# Altium integrated library ST Comm Teletext Circuit.IntLib: 25 symbols
Pins are listed as number, name and electrical type; pins without a type are passive.

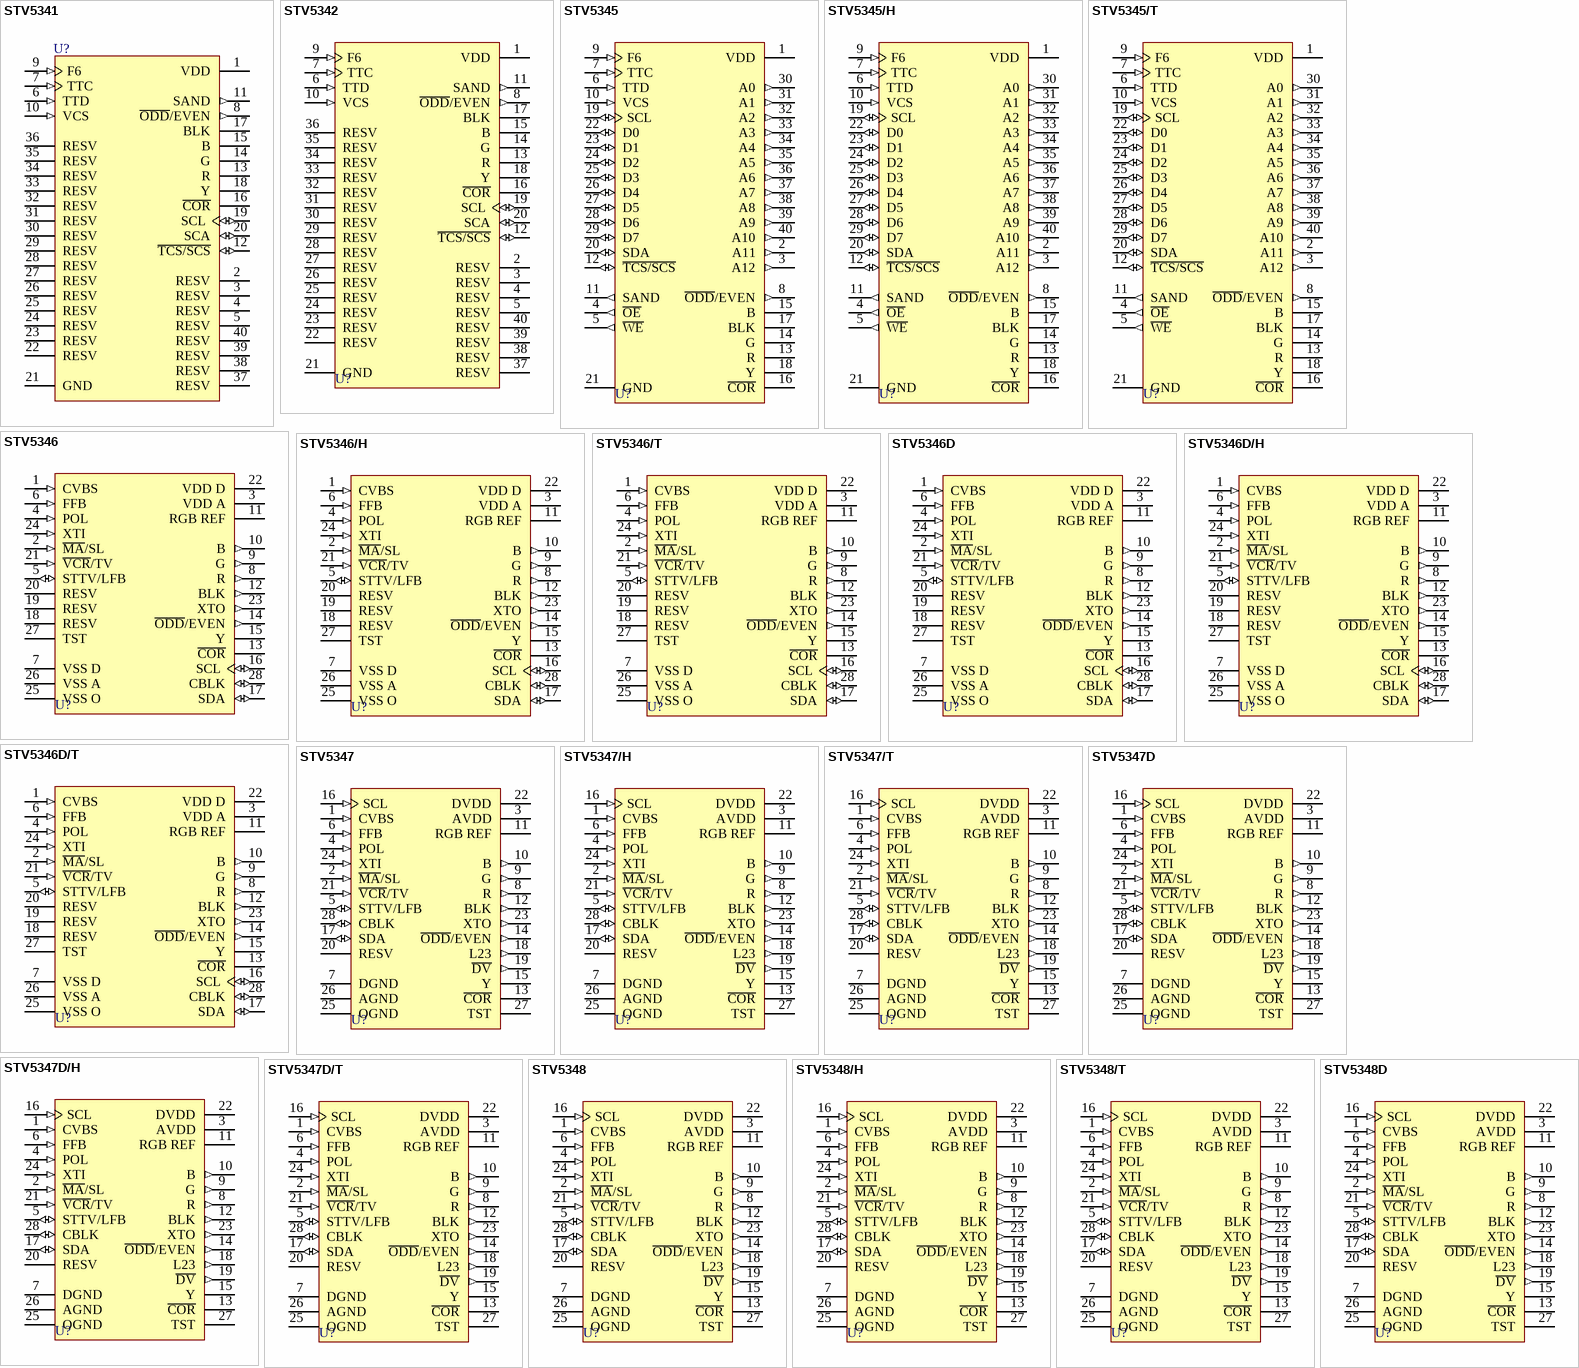
[diagram p0: symbols STV5341 to STV5348D]

## STV5341
designator U?
Teletext Decoder 2 Pages with Ghost Rows or 4 Pages for Display; Published: 24-Aug-2001; LatestRevisionDate: 17-Jul-2002; LatestRevisionNote: Re-released for DXP Platform.; DatasheetDocument: Apr-1994; PackageDocument: Jul-1999; PackageReference: PDIP40B; Publisher: Altium Limited
footprint PDIP40B (DIP; 40 Leads; Row Spacing 15.24 mm; Pitch 2.54 mm)
pins: 1 VDD (power), 2 RESV, 3 RESV, 4 RESV, 5 RESV, 6 TTD (in), 7 TTC (in), 8 ~{ODD}/EVEN (out), 9 F6 (in), 10 VCS (in), 11 SAND (out), 12 ~{TCS/SCS} (io), 13 R (oc), 14 G (oc), 15 B (oc), 16 ~{COR} (oc), 17 BLK (oc), 18 Y (oc), 19 SCL (io), 20 SCA (io), 21 GND (power), 22 RESV, 23 RESV, 24 RESV, 25 RESV, 26 RESV, 27 RESV, 28 RESV, 29 RESV, 30 RESV, 31 RESV, 32 RESV, 33 RESV, 34 RESV, 35 RESV, 36 RESV, 37 RESV, 38 RESV, 39 RESV, 40 RESV

## STV5342
designator U?
Teletext Decoder with 4 Integrated Pages; Published: 24-Aug-2001; LatestRevisionDate: 17-Jul-2002; LatestRevisionNote: Re-released for DXP Platform.; DatasheetDocument: Apr-1994; PackageDocument: Jul-1999; PackageReference: PDIP40B; Publisher: Altium Limited
footprint PDIP40B (DIP; 40 Leads; Row Spacing 15.24 mm; Pitch 2.54 mm)
pins: 1 VDD (power), 2 RESV, 3 RESV, 4 RESV, 5 RESV, 6 TTD (in), 7 TTC (in), 8 ~{ODD}/EVEN (out), 9 F6 (in), 10 VCS (in), 11 SAND (out), 12 ~{TCS/SCS} (io), 13 R (oc), 14 G (oc), 15 B (oc), 16 ~{COR} (oc), 17 BLK (oc), 18 Y (oc), 19 SCL (io), 20 SCA (io), 21 GND (power), 22 RESV, 23 RESV, 24 RESV, 25 RESV, 26 RESV, 27 RESV, 28 RESV, 29 RESV, 30 RESV, 31 RESV, 32 RESV, 33 RESV, 34 RESV, 35 RESV, 36 RESV, 37 RESV, 38 RESV, 39 RESV, 40 RESV

## STV5345
designator U?
Teletext Decoder with 8 Integrated Pages; Published: 24-Aug-2001; LatestRevisionDate: 17-Jul-2002; LatestRevisionNote: Re-released for DXP Platform.; DatasheetDocument: Apr-1994; PackageDocument: Jul-1999; PackageReference: PDIP40B; Publisher: Altium Limited
footprint PDIP40B (DIP; 40 Leads; Row Spacing 15.24 mm; Pitch 2.54 mm)
pins: 1 VDD (power), 2 A11 (out), 3 A12 (out), 4 ~{OE} (out), 5 ~{WE} (out), 6 TTD (in), 7 TTC (in), 8 ~{ODD}/EVEN (out), 9 F6 (in), 10 VCS (in), 11 SAND (out), 12 ~{TCS/SCS} (io), 13 R (oc), 14 G (oc), 15 B (oc), 16 ~{COR} (oc), 17 BLK (oc), 18 Y (oc), 19 SCL (io), 20 SDA (io), 21 GND (power), 22 D0 (io), 23 D1 (io), 24 D2 (io), 25 D3 (io), 26 D4 (io), 27 D5 (io), 28 D6 (io), 29 D7 (io), 30 A0 (out), 31 A1 (out), 32 A2 (out), 33 A3 (out), 34 A4 (out), 35 A5 (out), 36 A6 (out), 37 A7 (out), 38 A8 (out), 39 A9 (out), 40 A10 (out)

## STV5345/H
designator U?
Teletext Decoder with 8 Integrated Pages; Published: 24-Aug-2001; LatestRevisionDate: 17-Jul-2002; LatestRevisionNote: Re-released for DXP Platform.; DatasheetDocument: Apr-1994; PackageDocument: Jul-1999; PackageReference: PDIP40B; Publisher: Altium Limited
footprint PDIP40B (DIP; 40 Leads; Row Spacing 15.24 mm; Pitch 2.54 mm)
pins: 1 VDD (power), 2 A11 (out), 3 A12 (out), 4 ~{OE} (out), 5 ~{WE} (out), 6 TTD (in), 7 TTC (in), 8 ~{ODD}/EVEN (out), 9 F6 (in), 10 VCS (in), 11 SAND (out), 12 ~{TCS/SCS} (io), 13 R (oc), 14 G (oc), 15 B (oc), 16 ~{COR} (oc), 17 BLK (oc), 18 Y (oc), 19 SCL (io), 20 SDA (io), 21 GND (power), 22 D0 (io), 23 D1 (io), 24 D2 (io), 25 D3 (io), 26 D4 (io), 27 D5 (io), 28 D6 (io), 29 D7 (io), 30 A0 (out), 31 A1 (out), 32 A2 (out), 33 A3 (out), 34 A4 (out), 35 A5 (out), 36 A6 (out), 37 A7 (out), 38 A8 (out), 39 A9 (out), 40 A10 (out)

## STV5345/T
designator U?
Teletext Decoder with 8 Integrated Pages; Published: 24-Aug-2001; LatestRevisionDate: 17-Jul-2002; LatestRevisionNote: Re-released for DXP Platform.; DatasheetDocument: Apr-1994; PackageDocument: Jul-1999; PackageReference: PDIP40B; Publisher: Altium Limited
footprint PDIP40B (DIP; 40 Leads; Row Spacing 15.24 mm; Pitch 2.54 mm)
pins: 1 VDD (power), 2 A11 (out), 3 A12 (out), 4 ~{OE} (out), 5 ~{WE} (out), 6 TTD (in), 7 TTC (in), 8 ~{ODD}/EVEN (out), 9 F6 (in), 10 VCS (in), 11 SAND (out), 12 ~{TCS/SCS} (io), 13 R (oc), 14 G (oc), 15 B (oc), 16 ~{COR} (oc), 17 BLK (oc), 18 Y (oc), 19 SCL (io), 20 SDA (io), 21 GND (power), 22 D0 (io), 23 D1 (io), 24 D2 (io), 25 D3 (io), 26 D4 (io), 27 D5 (io), 28 D6 (io), 29 D7 (io), 30 A0 (out), 31 A1 (out), 32 A2 (out), 33 A3 (out), 34 A4 (out), 35 A5 (out), 36 A6 (out), 37 A7 (out), 38 A8 (out), 39 A9 (out), 40 A10 (out)

## STV5346
designator U?
Monochip Teletext Decoder with 8 Integrated Pages; Published: 24-Aug-2001; LatestRevisionDate: 17-Jul-2002; LatestRevisionNote: Re-released for DXP Platform.; DatasheetDocument: Nov-1995; PackageDocument: Jan-2003; PackageReference: PDIP28; Publisher: Altium Limited
footprint PDIP28 (DIP; 28 Leads; Row Spacing 15.24 mm; Pitch 2.54 mm)
pins: 1 CVBS (in), 2 ~{MA}/SL (in), 3 VDD A (power), 4 POL (in), 5 STTV/LFB (io), 6 FFB (in), 7 VSS D (power), 8 R (out), 9 G (out), 10 B (out), 11 RGB REF (power), 12 BLK (out), 13 ~{COR} (oc), 14 ~{ODD}/EVEN (out), 15 Y (oc), 16 SCL (io), 17 SDA (io), 18 RESV, 19 RESV, 20 RESV, 21 ~{VCR}/TV (in), 22 VDD D (power), 23 XTO (out), 24 XTI (in), 25 VSS O (power), 26 VSS A (power), 27 TST, 28 CBLK (io)

## STV5346/H
designator U?
Monochip Teletext Decoder with 8 Integrated Pages; Published: 24-Aug-2001; LatestRevisionDate: 17-Jul-2002; LatestRevisionNote: Re-released for DXP Platform.; DatasheetDocument: Nov-1995; PackageDocument: Jan-2003; PackageReference: PDIP28; Publisher: Altium Limited
footprint PDIP28 (DIP; 28 Leads; Row Spacing 15.24 mm; Pitch 2.54 mm)
pins: 1 CVBS (in), 2 ~{MA}/SL (in), 3 VDD A (power), 4 POL (in), 5 STTV/LFB (io), 6 FFB (in), 7 VSS D (power), 8 R (out), 9 G (out), 10 B (out), 11 RGB REF (power), 12 BLK (out), 13 ~{COR} (oc), 14 ~{ODD}/EVEN (out), 15 Y (oc), 16 SCL (io), 17 SDA (io), 18 RESV, 19 RESV, 20 RESV, 21 ~{VCR}/TV (in), 22 VDD D (power), 23 XTO (out), 24 XTI (in), 25 VSS O (power), 26 VSS A (power), 27 TST, 28 CBLK (io)

## STV5346/T
designator U?
Monochip Teletext Decoder with 8 Integrated Pages; Published: 24-Aug-2001; LatestRevisionDate: 17-Jul-2002; LatestRevisionNote: Re-released for DXP Platform.; DatasheetDocument: Nov-1995; PackageDocument: Jan-2003; PackageReference: PDIP28; Publisher: Altium Limited
footprint PDIP28 (DIP; 28 Leads; Row Spacing 15.24 mm; Pitch 2.54 mm)
pins: 1 CVBS (in), 2 ~{MA}/SL (in), 3 VDD A (power), 4 POL (in), 5 STTV/LFB (io), 6 FFB (in), 7 VSS D (power), 8 R (out), 9 G (out), 10 B (out), 11 RGB REF (power), 12 BLK (out), 13 ~{COR} (oc), 14 ~{ODD}/EVEN (out), 15 Y (oc), 16 SCL (io), 17 SDA (io), 18 RESV, 19 RESV, 20 RESV, 21 ~{VCR}/TV (in), 22 VDD D (power), 23 XTO (out), 24 XTI (in), 25 VSS O (power), 26 VSS A (power), 27 TST, 28 CBLK (io)

## STV5346D
designator U?
Monochip Teletext Decoder with 8 Integrated Pages; Published: 24-Aug-2001; LatestRevisionDate: 17-Jul-2002; LatestRevisionNote: Re-released for DXP Platform.; DatasheetDocument: Nov-1995; PackageDocument: Jul-2001; PackageReference: SO28; Publisher: Altium Limited; Code_IPC: SO28W
footprint SO28 (Small Outline, Plastic; 28 Leads; Body Width 7.5 mm; Pitch 1.27 mm)
pins: 1 CVBS (in), 2 ~{MA}/SL (in), 3 VDD A (power), 4 POL (in), 5 STTV/LFB (io), 6 FFB (in), 7 VSS D (power), 8 R (out), 9 G (out), 10 B (out), 11 RGB REF (power), 12 BLK (out), 13 ~{COR} (oc), 14 ~{ODD}/EVEN (out), 15 Y (oc), 16 SCL (io), 17 SDA (io), 18 RESV, 19 RESV, 20 RESV, 21 ~{VCR}/TV (in), 22 VDD D (power), 23 XTO (out), 24 XTI (in), 25 VSS O (power), 26 VSS A (power), 27 TST, 28 CBLK (io)

## STV5346D/H
designator U?
Monochip Teletext Decoder with 8 Integrated Pages; Published: 24-Aug-2001; LatestRevisionDate: 17-Jul-2002; LatestRevisionNote: Re-released for DXP Platform.; DatasheetDocument: Nov-1995; PackageDocument: Jul-2001; PackageReference: SO28; Publisher: Altium Limited; Code_IPC: SO28W
footprint SO28 (Small Outline, Plastic; 28 Leads; Body Width 7.5 mm; Pitch 1.27 mm)
pins: 1 CVBS (in), 2 ~{MA}/SL (in), 3 VDD A (power), 4 POL (in), 5 STTV/LFB (io), 6 FFB (in), 7 VSS D (power), 8 R (out), 9 G (out), 10 B (out), 11 RGB REF (power), 12 BLK (out), 13 ~{COR} (oc), 14 ~{ODD}/EVEN (out), 15 Y (oc), 16 SCL (io), 17 SDA (io), 18 RESV, 19 RESV, 20 RESV, 21 ~{VCR}/TV (in), 22 VDD D (power), 23 XTO (out), 24 XTI (in), 25 VSS O (power), 26 VSS A (power), 27 TST, 28 CBLK (io)

## STV5346D/T
designator U?
Monochip Teletext Decoder with 8 Integrated Pages; Published: 24-Aug-2001; LatestRevisionDate: 17-Jul-2002; LatestRevisionNote: Re-released for DXP Platform.; DatasheetDocument: Nov-1995; PackageDocument: Jul-2001; PackageReference: SO28; Publisher: Altium Limited; Code_IPC: SO28W
footprint SO28 (Small Outline, Plastic; 28 Leads; Body Width 7.5 mm; Pitch 1.27 mm)
pins: 1 CVBS (in), 2 ~{MA}/SL (in), 3 VDD A (power), 4 POL (in), 5 STTV/LFB (io), 6 FFB (in), 7 VSS D (power), 8 R (out), 9 G (out), 10 B (out), 11 RGB REF (power), 12 BLK (out), 13 ~{COR} (oc), 14 ~{ODD}/EVEN (out), 15 Y (oc), 16 SCL (io), 17 SDA (io), 18 RESV, 19 RESV, 20 RESV, 21 ~{VCR}/TV (in), 22 VDD D (power), 23 XTO (out), 24 XTI (in), 25 VSS O (power), 26 VSS A (power), 27 TST, 28 CBLK (io)

## STV5347
designator U?
Monochip Teletext and VPS Decoder with 4 Integrated Pages; Published: 24-Aug-2001; LatestRevisionDate: 17-Jul-2002; LatestRevisionNote: Re-released for DXP Platform.; DatasheetDocument: Jun-1997; PackageDocument: Jan-2003; PackageReference: PDIP28; Publisher: Altium Limited
footprint PDIP28 (DIP; 28 Leads; Row Spacing 15.24 mm; Pitch 2.54 mm)
pins: 1 CVBS (in), 2 ~{MA}/SL (in), 3 AVDD (power), 4 POL (in), 5 STTV/LFB (io), 6 FFB (in), 7 DGND (power), 8 R (out), 9 G (out), 10 B (out), 11 RGB REF (power), 12 BLK (out), 13 ~{COR} (oc), 14 ~{ODD}/EVEN (out), 15 Y (oc), 16 SCL (in), 17 SDA (io), 18 L23 (out), 19 ~{DV} (out), 20 RESV, 21 ~{VCR}/TV (in), 22 DVDD (power), 23 XTO (out), 24 XTI (in), 25 OGND (power), 26 AGND (power), 27 TST, 28 CBLK (io)

## STV5347/H
designator U?
Monochip Teletext and VPS Decoder with 4 Integrated Pages; Published: 24-Aug-2001; LatestRevisionDate: 17-Jul-2002; LatestRevisionNote: Re-released for DXP Platform.; DatasheetDocument: Jun-1997; PackageDocument: Jan-2003; PackageReference: PDIP28; Publisher: Altium Limited
footprint PDIP28 (DIP; 28 Leads; Row Spacing 15.24 mm; Pitch 2.54 mm)
pins: 1 CVBS (in), 2 ~{MA}/SL (in), 3 AVDD (power), 4 POL (in), 5 STTV/LFB (io), 6 FFB (in), 7 DGND (power), 8 R (out), 9 G (out), 10 B (out), 11 RGB REF (power), 12 BLK (out), 13 ~{COR} (oc), 14 ~{ODD}/EVEN (out), 15 Y (oc), 16 SCL (in), 17 SDA (io), 18 L23 (out), 19 ~{DV} (out), 20 RESV, 21 ~{VCR}/TV (in), 22 DVDD (power), 23 XTO (out), 24 XTI (in), 25 OGND (power), 26 AGND (power), 27 TST, 28 CBLK (io)

## STV5347/T
designator U?
Monochip Teletext and VPS Decoder with 4 Integrated Pages; Published: 24-Aug-2001; LatestRevisionDate: 17-Jul-2002; LatestRevisionNote: Re-released for DXP Platform.; DatasheetDocument: Jun-1997; PackageDocument: Jan-2003; PackageReference: PDIP28; Publisher: Altium Limited
footprint PDIP28 (DIP; 28 Leads; Row Spacing 15.24 mm; Pitch 2.54 mm)
pins: 1 CVBS (in), 2 ~{MA}/SL (in), 3 AVDD (power), 4 POL (in), 5 STTV/LFB (io), 6 FFB (in), 7 DGND (power), 8 R (out), 9 G (out), 10 B (out), 11 RGB REF (power), 12 BLK (out), 13 ~{COR} (oc), 14 ~{ODD}/EVEN (out), 15 Y (oc), 16 SCL (in), 17 SDA (io), 18 L23 (out), 19 ~{DV} (out), 20 RESV, 21 ~{VCR}/TV (in), 22 DVDD (power), 23 XTO (out), 24 XTI (in), 25 OGND (power), 26 AGND (power), 27 TST, 28 CBLK (io)

## STV5347D
designator U?
Monochip Teletext and VPS Decoder with 4 Integrated Pages; Published: 24-Aug-2001; LatestRevisionDate: 17-Jul-2002; LatestRevisionNote: Re-released for DXP Platform.; DatasheetDocument: Jun-1997; PackageDocument: Jul-2001; PackageReference: SO28; Publisher: Altium Limited; Code_IPC: SO28W
footprint SO28 (Small Outline, Plastic; 28 Leads; Body Width 7.5 mm; Pitch 1.27 mm)
pins: 1 CVBS (in), 2 ~{MA}/SL (in), 3 AVDD (power), 4 POL (in), 5 STTV/LFB (io), 6 FFB (in), 7 DGND (power), 8 R (out), 9 G (out), 10 B (out), 11 RGB REF (power), 12 BLK (out), 13 ~{COR} (oc), 14 ~{ODD}/EVEN (out), 15 Y (oc), 16 SCL (in), 17 SDA (io), 18 L23 (out), 19 ~{DV} (out), 20 RESV, 21 ~{VCR}/TV (in), 22 DVDD (power), 23 XTO (out), 24 XTI (in), 25 OGND (power), 26 AGND (power), 27 TST, 28 CBLK (io)

## STV5347D/H
designator U?
Monochip Teletext and VPS Decoder with 4 Integrated Pages; Published: 24-Aug-2001; LatestRevisionDate: 17-Jul-2002; LatestRevisionNote: Re-released for DXP Platform.; DatasheetDocument: Jun-1997; PackageDocument: Jul-2001; PackageReference: SO28; Publisher: Altium Limited; Code_IPC: SO28W
footprint SO28 (Small Outline, Plastic; 28 Leads; Body Width 7.5 mm; Pitch 1.27 mm)
pins: 1 CVBS (in), 2 ~{MA}/SL (in), 3 AVDD (power), 4 POL (in), 5 STTV/LFB (io), 6 FFB (in), 7 DGND (power), 8 R (out), 9 G (out), 10 B (out), 11 RGB REF (power), 12 BLK (out), 13 ~{COR} (oc), 14 ~{ODD}/EVEN (out), 15 Y (oc), 16 SCL (in), 17 SDA (io), 18 L23 (out), 19 ~{DV} (out), 20 RESV, 21 ~{VCR}/TV (in), 22 DVDD (power), 23 XTO (out), 24 XTI (in), 25 OGND (power), 26 AGND (power), 27 TST, 28 CBLK (io)

## STV5347D/T
designator U?
Monochip Teletext and VPS Decoder with 4 Integrated Pages; Published: 24-Aug-2001; LatestRevisionDate: 17-Jul-2002; LatestRevisionNote: Re-released for DXP Platform.; DatasheetDocument: Jun-1997; PackageDocument: Jul-2001; PackageReference: SO28; Publisher: Altium Limited; Code_IPC: SO28W
footprint SO28 (Small Outline, Plastic; 28 Leads; Body Width 7.5 mm; Pitch 1.27 mm)
pins: 1 CVBS (in), 2 ~{MA}/SL (in), 3 AVDD (power), 4 POL (in), 5 STTV/LFB (io), 6 FFB (in), 7 DGND (power), 8 R (out), 9 G (out), 10 B (out), 11 RGB REF (power), 12 BLK (out), 13 ~{COR} (oc), 14 ~{ODD}/EVEN (out), 15 Y (oc), 16 SCL (in), 17 SDA (io), 18 L23 (out), 19 ~{DV} (out), 20 RESV, 21 ~{VCR}/TV (in), 22 DVDD (power), 23 XTO (out), 24 XTI (in), 25 OGND (power), 26 AGND (power), 27 TST, 28 CBLK (io)

## STV5348
designator U?
Monochip Teletext and VPS Decoder with 8 Integrated Pages; Published: 24-Aug-2001; LatestRevisionDate: 17-Jul-2002; LatestRevisionNote: Re-released for DXP Platform.; DatasheetDocument: Sep-1998; PackageDocument: Jan-2003; PackageReference: PDIP28; Publisher: Altium Limited
footprint PDIP28 (DIP; 28 Leads; Row Spacing 15.24 mm; Pitch 2.54 mm)
pins: 1 CVBS (in), 2 ~{MA}/SL (in), 3 AVDD (power), 4 POL (in), 5 STTV/LFB (io), 6 FFB (in), 7 DGND (power), 8 R (out), 9 G (out), 10 B (out), 11 RGB REF (power), 12 BLK (out), 13 ~{COR} (oc), 14 ~{ODD}/EVEN (out), 15 Y (oc), 16 SCL (in), 17 SDA (io), 18 L23 (out), 19 ~{DV} (out), 20 RESV, 21 ~{VCR}/TV (in), 22 DVDD (power), 23 XTO (out), 24 XTI (in), 25 OGND (power), 26 AGND (power), 27 TST, 28 CBLK (io)

## STV5348/H
designator U?
Monochip Teletext and VPS Decoder with 8 Integrated Pages; Published: 24-Aug-2001; LatestRevisionDate: 17-Jul-2002; LatestRevisionNote: Re-released for DXP Platform.; DatasheetDocument: Sep-1998; PackageDocument: Jan-2003; PackageReference: PDIP28; Publisher: Altium Limited
footprint PDIP28 (DIP; 28 Leads; Row Spacing 15.24 mm; Pitch 2.54 mm)
pins: 1 CVBS (in), 2 ~{MA}/SL (in), 3 AVDD (power), 4 POL (in), 5 STTV/LFB (io), 6 FFB (in), 7 DGND (power), 8 R (out), 9 G (out), 10 B (out), 11 RGB REF (power), 12 BLK (out), 13 ~{COR} (oc), 14 ~{ODD}/EVEN (out), 15 Y (oc), 16 SCL (in), 17 SDA (io), 18 L23 (out), 19 ~{DV} (out), 20 RESV, 21 ~{VCR}/TV (in), 22 DVDD (power), 23 XTO (out), 24 XTI (in), 25 OGND (power), 26 AGND (power), 27 TST, 28 CBLK (io)

## STV5348/T
designator U?
Monochip Teletext and VPS Decoder with 8 Integrated Pages; Published: 24-Aug-2001; LatestRevisionDate: 17-Jul-2002; LatestRevisionNote: Re-released for DXP Platform.; DatasheetDocument: Sep-1998; PackageDocument: Jan-2003; PackageReference: PDIP28; Publisher: Altium Limited
footprint PDIP28 (DIP; 28 Leads; Row Spacing 15.24 mm; Pitch 2.54 mm)
pins: 1 CVBS (in), 2 ~{MA}/SL (in), 3 AVDD (power), 4 POL (in), 5 STTV/LFB (io), 6 FFB (in), 7 DGND (power), 8 R (out), 9 G (out), 10 B (out), 11 RGB REF (power), 12 BLK (out), 13 ~{COR} (oc), 14 ~{ODD}/EVEN (out), 15 Y (oc), 16 SCL (in), 17 SDA (io), 18 L23 (out), 19 ~{DV} (out), 20 RESV, 21 ~{VCR}/TV (in), 22 DVDD (power), 23 XTO (out), 24 XTI (in), 25 OGND (power), 26 AGND (power), 27 TST, 28 CBLK (io)

## STV5348D
designator U?
Monochip Teletext and VPS Decoder with 8 Integrated Pages; Published: 24-Aug-2001; LatestRevisionDate: 17-Jul-2002; LatestRevisionNote: Re-released for DXP Platform.; DatasheetDocument: Sep-1998; PackageDocument: Jul-2001; PackageReference: SO28; Publisher: Altium Limited; Code_IPC: SO28W
footprint SO28 (Small Outline, Plastic; 28 Leads; Body Width 7.5 mm; Pitch 1.27 mm)
pins: 1 CVBS (in), 2 ~{MA}/SL (in), 3 AVDD (power), 4 POL (in), 5 STTV/LFB (io), 6 FFB (in), 7 DGND (power), 8 R (out), 9 G (out), 10 B (out), 11 RGB REF (power), 12 BLK (out), 13 ~{COR} (oc), 14 ~{ODD}/EVEN (out), 15 Y (oc), 16 SCL (in), 17 SDA (io), 18 L23 (out), 19 ~{DV} (out), 20 RESV, 21 ~{VCR}/TV (in), 22 DVDD (power), 23 XTO (out), 24 XTI (in), 25 OGND (power), 26 AGND (power), 27 TST, 28 CBLK (io)

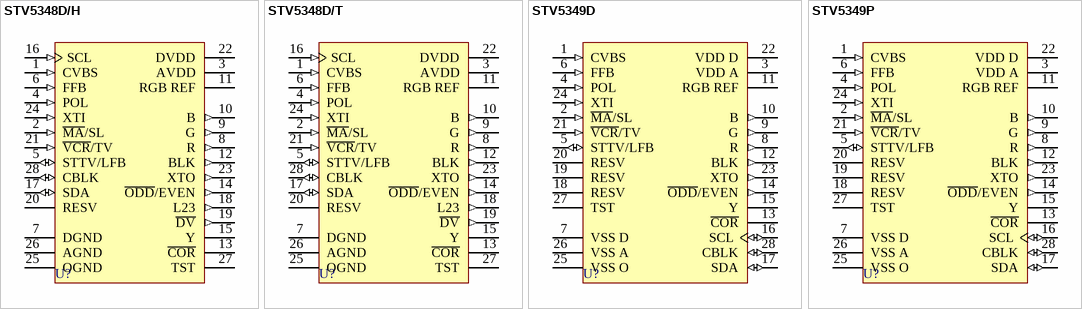
[diagram p1: symbols STV5348D/H to STV5349P]

## STV5348D/H
designator U?
Monochip Teletext and VPS Decoder with 8 Integrated Pages; Published: 24-Aug-2001; LatestRevisionDate: 17-Jul-2002; LatestRevisionNote: Re-released for DXP Platform.; DatasheetDocument: Sep-1998; PackageDocument: Jul-2001; PackageReference: SO28; Publisher: Altium Limited; Code_IPC: SO28W
footprint SO28 (Small Outline, Plastic; 28 Leads; Body Width 7.5 mm; Pitch 1.27 mm)
pins: 1 CVBS (in), 2 ~{MA}/SL (in), 3 AVDD (power), 4 POL (in), 5 STTV/LFB (io), 6 FFB (in), 7 DGND (power), 8 R (out), 9 G (out), 10 B (out), 11 RGB REF (power), 12 BLK (out), 13 ~{COR} (oc), 14 ~{ODD}/EVEN (out), 15 Y (oc), 16 SCL (in), 17 SDA (io), 18 L23 (out), 19 ~{DV} (out), 20 RESV, 21 ~{VCR}/TV (in), 22 DVDD (power), 23 XTO (out), 24 XTI (in), 25 OGND (power), 26 AGND (power), 27 TST, 28 CBLK (io)

## STV5348D/T
designator U?
Monochip Teletext and VPS Decoder with 8 Integrated Pages; Published: 24-Aug-2001; LatestRevisionDate: 17-Jul-2002; LatestRevisionNote: Re-released for DXP Platform.; DatasheetDocument: Sep-1998; PackageDocument: Jul-2001; PackageReference: SO28; Publisher: Altium Limited; Code_IPC: SO28W
footprint SO28 (Small Outline, Plastic; 28 Leads; Body Width 7.5 mm; Pitch 1.27 mm)
pins: 1 CVBS (in), 2 ~{MA}/SL (in), 3 AVDD (power), 4 POL (in), 5 STTV/LFB (io), 6 FFB (in), 7 DGND (power), 8 R (out), 9 G (out), 10 B (out), 11 RGB REF (power), 12 BLK (out), 13 ~{COR} (oc), 14 ~{ODD}/EVEN (out), 15 Y (oc), 16 SCL (in), 17 SDA (io), 18 L23 (out), 19 ~{DV} (out), 20 RESV, 21 ~{VCR}/TV (in), 22 DVDD (power), 23 XTO (out), 24 XTI (in), 25 OGND (power), 26 AGND (power), 27 TST, 28 CBLK (io)

## STV5349D
designator U?
Monochip Teletext Decoder with 1 Displayable Page with Ghost Rows; Published: 24-Aug-2001; LatestRevisionDate: 17-Jul-2002; LatestRevisionNote: Re-released for DXP Platform.; DatasheetDocument: Oct-1994; PackageDocument: Jul-2001; PackageReference: SO28; Publisher: Altium Limited; Code_IPC: SO28W
footprint SO28 (Small Outline, Plastic; 28 Leads; Body Width 7.5 mm; Pitch 1.27 mm)
pins: 1 CVBS (in), 2 ~{MA}/SL (in), 3 VDD A (power), 4 POL (in), 5 STTV/LFB (io), 6 FFB (in), 7 VSS D (power), 8 R (out), 9 G (out), 10 B (out), 11 RGB REF (power), 12 BLK (out), 13 ~{COR} (oc), 14 ~{ODD}/EVEN (out), 15 Y (oc), 16 SCL (io), 17 SDA (io), 18 RESV, 19 RESV, 20 RESV, 21 ~{VCR}/TV (in), 22 VDD D (power), 23 XTO (out), 24 XTI (in), 25 VSS O (power), 26 VSS A (power), 27 TST, 28 CBLK (io)

## STV5349P
designator U?
Monochip Teletext Decoder with 1 Displayable Page with Ghost Rows; Published: 24-Aug-2001; LatestRevisionDate: 17-Jul-2002; LatestRevisionNote: Re-released for DXP Platform.; DatasheetDocument: Oct-1994; PackageDocument: Jan-2003; PackageReference: PDIP28; Publisher: Altium Limited
footprint PDIP28 (DIP; 28 Leads; Row Spacing 15.24 mm; Pitch 2.54 mm)
pins: 1 CVBS (in), 2 ~{MA}/SL (in), 3 VDD A (power), 4 POL (in), 5 STTV/LFB (io), 6 FFB (in), 7 VSS D (power), 8 R (out), 9 G (out), 10 B (out), 11 RGB REF (power), 12 BLK (out), 13 ~{COR} (oc), 14 ~{ODD}/EVEN (out), 15 Y (oc), 16 SCL (io), 17 SDA (io), 18 RESV, 19 RESV, 20 RESV, 21 ~{VCR}/TV (in), 22 VDD D (power), 23 XTO (out), 24 XTI (in), 25 VSS O (power), 26 VSS A (power), 27 TST, 28 CBLK (io)